# Altium footprint library num_one.PcbLib: 28 footprints (part 1 of 2)
Each footprint in its own frame and in the unit in brackets; x right, y up, seen from the top. Pads: shape width x height; smd on the part's side, far side on the other; paste and mask are expansions set on the pad; w line width, h text height; cw(c..) or ccw(c..) is an arc to the next point about the centre after c.
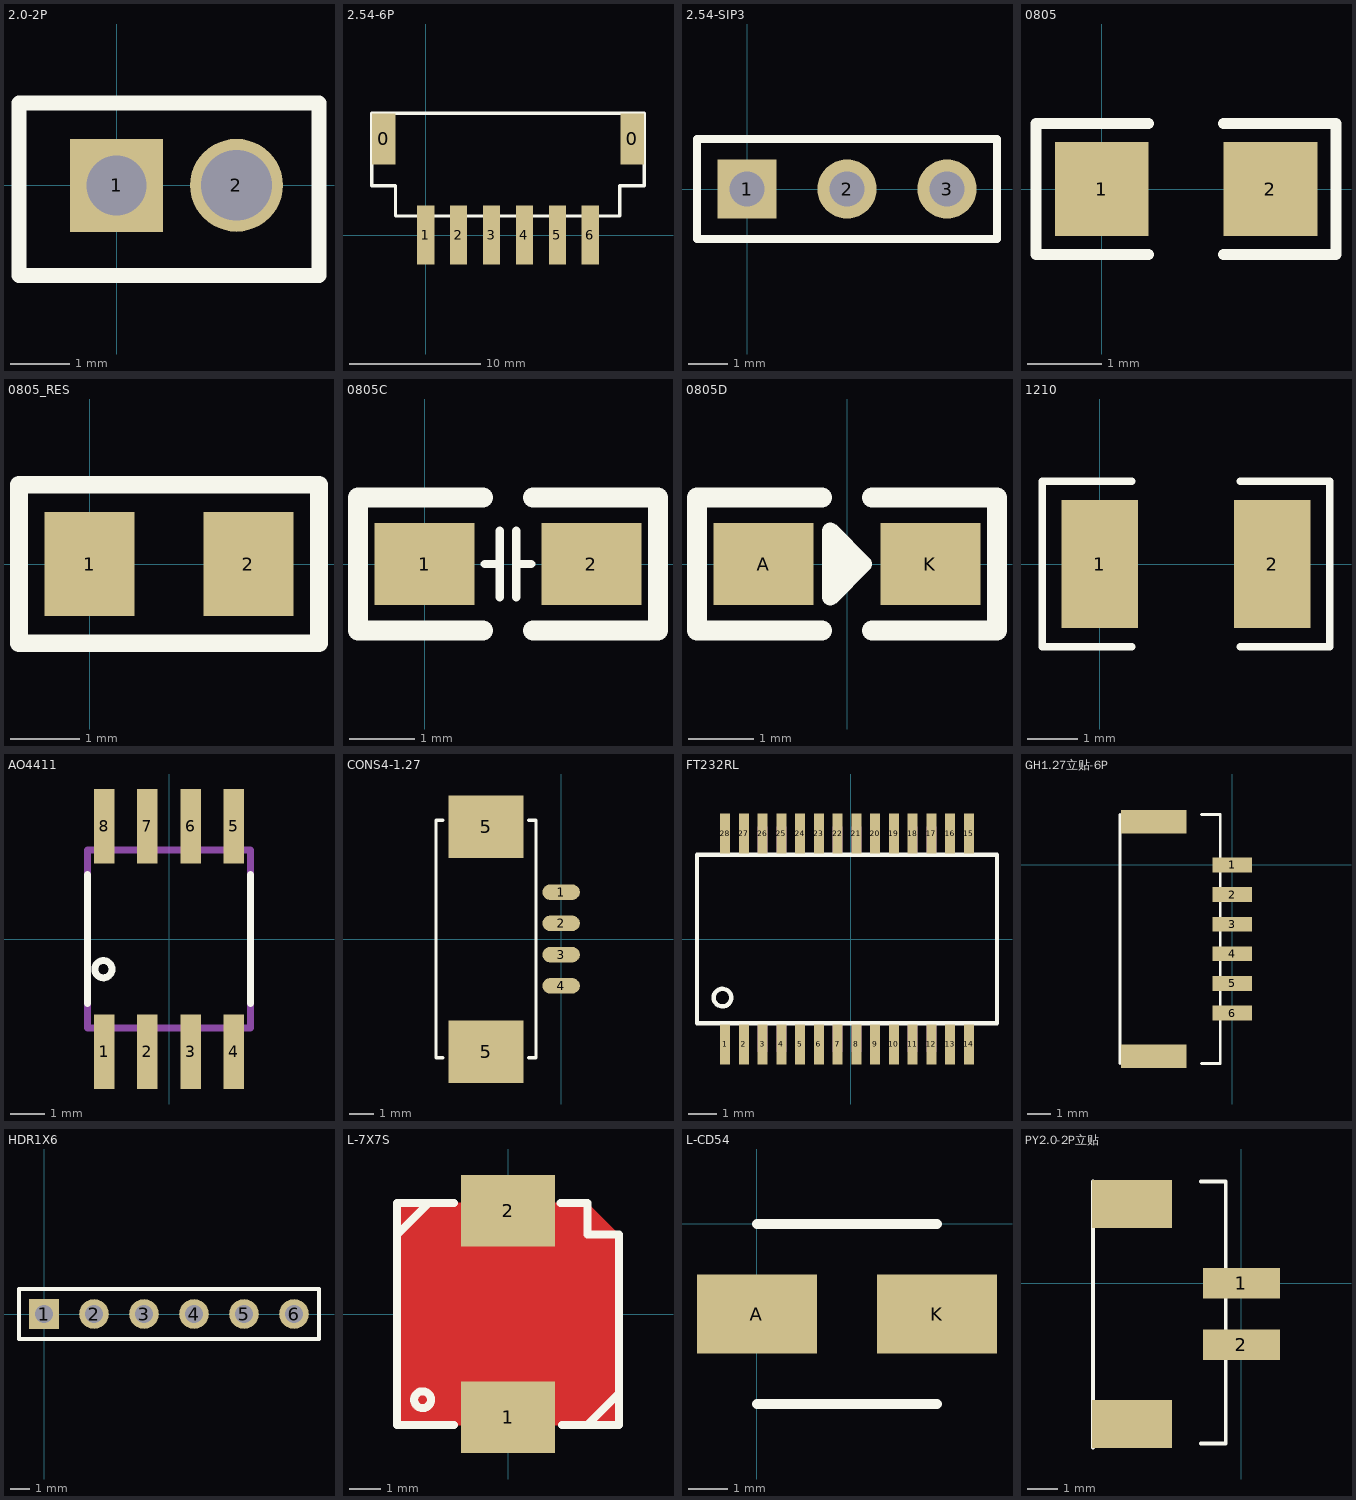
[diagram p0: the footprints below, top view; thin cyan lines are the x and y axes]

## 2.0-2P [mil]
pads (2):
  rect 62x62 hole 40: 1(0,0)
  round 62 hole 47.24: 2(80,0)
Top Overlay:
  lines w10: -65,-60 135,-60 135,55 -65,55 -65,-60

## 2.54-6P [mm]
pads (8):
  rect 1.8x3.9 smd: 0(-3.2,7.3) 0(15.7,7.3)
  rect 1.3x4.5 smd: 1(0,0) 2(2.5,0) 3(5,0) 4(7.5,0) 5(10,0) 6(12.5,0)
Top Overlay:
  lines w0.254: 14.732,3.75 14.732,1.45 -2.3,1.45 -2.3,3.75 -4.1,3.75 -4.1,9.25 16.6,9.25 16.6,3.75 14.8,3.75

## 2.54-SIP3 [mm]
pads (3):
  rect 1.5x1.5 hole 0.9: 1(0,0)
  round 1.5 hole 0.9: 2(2.54,0) 3(5.08,0)
Top Overlay:
  lines w0.2: -1.27,-1.27 6.35,-1.27 6.35,1.27 -1.27,1.27 -1.27,-1.27

## 0805 [mil]
pads (2):
  rect 50x50 smd: 1(0,0) 2(90,0)
Top Overlay:
  lines w5.91: 25,-35 -35,-35 -35,35 25,35 ; 65,-35 125,-35 125,35 65,35

## 0805_RES [mm]
pads (2):
  rect 1.3x1.5 smd: 1(0,0) 2(2.286,0)
Top Overlay:
  lines w0.254: -1.016,-1.143 3.302,-1.143 3.302,0.508 3.302,1.143 -1.016,1.143 -1.016,0.635 -1.016,-1.143
3D body: height 0.55, standoff 0, extent 0.143,-0.63 2.143,0.63

## 0805C [mm]
pads (2):
  rect 1.524x1.25 smd: 1(0,0) 2(2.54,0)
Top Overlay:
  lines w0.127: 0.914,0 1.143,0 ; 1.143,-0.508 1.143,0.508 ; 1.397,-0.508 1.397,0.508 ; 1.397,0 1.626,0
  lines w0.305: 0.889,-1.016 -1.016,-1.016 -1.016,1.016 0.889,1.016 ; 1.651,-1.016 3.556,-1.016 3.556,1.016 1.651,1.016

## 0805D [mm]
pads (2):
  rect 1.524x1.25 smd: A(-1.27,0) K(1.27,0)
Top Overlay:
  lines w0.254: -0.254,-0.254 -0.127,-0.254 0,-0.127 0,0 -0.1,0.1 -0.254,0.254 -0.254,0.508 ; -0.254,0.508 -0.254,-0.508 0.254,0 -0.254,0.508
  lines w0.305: -0.381,-1.016 -2.286,-1.016 -2.286,1.016 -0.381,1.016 ; 0.381,-1.016 2.286,-1.016 2.286,1.016 0.381,1.016

## 1210 [mil]
pads (2):
  rect 60x100 smd: 1(0,0) 2(135,0)
Top Overlay:
  lines w5.91: 25,-65 -45,-65 -45,65 25,65 ; 110,-65 180,-65 180,65 110,65

## AO4411 [mm]
pads (8):
  rect 0.6x2.2 smd: 1(-1.905,-3.315) 2(-0.635,-3.315) 3(0.635,-3.315) 4(1.905,-3.315) 5(1.905,3.315) 6(0.635,3.315) 7(-0.635,3.315) 8(-1.905,3.315)
Top Overlay:
  circle w0.203: c-1.93,-0.889 r0.254
  lines w0.203: -2.4,-1.9 -2.4,1.9 ; 2.4,-1.9 2.4,1.9
Mechanical 4:
  region: -2.15,-2.715 -1.66,-2.715 -1.66,-3.815 -2.15,-3.815
  region: -0.88,-2.715 -0.39,-2.715 -0.39,-3.815 -0.88,-3.815
  region: 0.39,-2.715 0.88,-2.715 0.88,-3.815 0.39,-3.815
  region: 1.66,-2.715 2.15,-2.715 2.15,-3.815 1.66,-3.815
  region: 1.66,3.815 2.15,3.815 2.15,2.715 1.66,2.715
  region: 0.39,3.815 0.88,3.815 0.88,2.715 0.39,2.715
  region: -0.88,3.815 -0.39,3.815 -0.39,2.715 -0.88,2.715
  region: -2.15,3.815 -1.66,3.815 -1.66,2.715 -2.15,2.715
  region: -2.15,-2.715 -1.66,-2.715 -1.66,-3.815 -2.15,-3.815
  region: -0.88,-2.715 -0.39,-2.715 -0.39,-3.815 -0.88,-3.815
  region: 0.39,-2.715 0.88,-2.715 0.88,-3.815 0.39,-3.815
  region: 1.66,-2.715 2.15,-2.715 2.15,-3.815 1.66,-3.815
  region: 1.66,3.815 2.15,3.815 2.15,2.715 1.66,2.715
  region: 0.39,3.815 0.88,3.815 0.88,2.715 0.39,2.715
  region: -0.88,3.815 -0.39,3.815 -0.39,2.715 -0.88,2.715
  region: -2.15,3.815 -1.66,3.815 -1.66,2.715 -2.15,2.715
  lines w0.203: -2.4,-2.615 2.4,-2.615 ; -2.4,-2.615 -2.4,2.615 ; -2.4,-2.615 2.4,-2.615 ; -2.4,-2.615 -2.4,2.615 ; -2.4,2.615 2.4,2.615 ; -2.4,2.615 2.4,2.615 ; 2.4,-2.615 2.4,2.615 ; 2.4,-2.615 2.4,2.615

## CONS4-1.27 [mil]
height 135
pads (6):
  oval 60x25 smd: 1(0,75) 2(0,25) 3(0,-25) 4(0,-75)
  rect 120x100 smd: 5(-120,-180) 5(-120,180)
Top Overlay:
  lines w5: -189,-190 -200,-190 -200,190 -189,190 ; -52,-190 -40,-190 -40,190 -52,190

## FT232RL [mil]
pads (28):
  rect 13.7x55 smd: 1(-171.34,-143.94) 2(-145.75,-143.94) 3(-120.16,-143.94) 4(-94.57,-143.94) 5(-68.98,-143.94) 6(-43.39,-143.94) 7(-17.8,-143.94) 8(7.8,-143.94) 9(33.39,-143.94) 10(58.98,-143.94) 11(84.57,-143.94) 12(110.16,-143.94) 13(135.75,-143.94) 14(161.34,-143.94) 15(161.34,143.94) 16(135.75,143.94) 17(110.16,143.94) 18(84.57,143.94) 19(58.98,143.94) 20(33.39,143.94) 21(7.8,143.94) 22(-17.8,143.94) 23(-43.39,143.94) 24(-68.98,143.94) 25(-94.57,143.94) 26(-120.16,143.94) 27(-145.75,143.94) 28(-171.34,143.94)
Top Overlay:
  circle w6: c-175,-80 r12
  lines w6: -209.72,-115.16 -209.72,115.16 199.72,115.16 199.72,-115.16 -209.72,-115.16
Mechanical 4:
  drawing of 56 lines, arcs and shapes, not listed

## GH1.27立贴-6P [mm]
pads (8):
  rect 1.7x0.635 smd: 1(0,0) 2(0,-1.27) 3(0,-2.54) 4(0,-3.81) 5(0,-5.08) 6(0,-6.35)
  rect 2.8x1 smd: ""(-3.35,-8.2) ""(-3.35,1.85)
Top Overlay:
  lines w0.127: -4.801,-8.509 -4.801,2.159 ; -1.321,-8.509 -0.508,-8.509 -0.508,2.159 -1.321,2.159

## HDR1X6 [mm] "Connector; Header; 6 Position"
pads (6):
  rect 1.5x1.5 hole 0.9: 1(0,0)
  round 1.5 hole 0.9: 2(2.54,0) 3(5.08,0) 4(7.62,0) 5(10.16,0) 6(12.7,0)
Top Overlay:
  lines w0.2: -1.27,-1.27 13.97,-1.27 13.97,1.27 -1.27,1.27 -1.27,-1.27

## L-7X7S [mil]
pads (2):
  rect 118.11x90 smd: 1(0,-130) 2(0,130)
Top Layer:
  pour cut-out: -140,140 -140,-140 140,-140 140,100 100,140
Top Overlay:
  circle w10: c-107.65,-108 r10.65
  lines w10: -140,100 -100,140 ; -68,-140 -140,-140 -140,140 -68,140 ; 66,140 100,140 100,100 140,100 140,-140 68,-140 ; 100,-140 140,-100

## L-CD54 [mm]
pads (2):
  rect 3.04x2 smd: A(0,-2.286) K(4.572,-2.286)
Top Overlay:
  lines w0.254: 0,-4.572 4.572,-4.572 ; 0,0 4.572,0

## PY2.0-2P立贴 [mm]
pads (4):
  rect 2.5x1 smd: 1(0,0) 2(0,-2)
  rect 2.6x1.55 smd: ""(-3.55,-4.575) ""(-3.55,2.575)
Top Overlay:
  lines w0.127: -4.826,-5.334 -4.826,3.302 ; -1.321,-5.207 -0.508,-5.207 -0.508,3.302 -1.321,3.302